# Altium schematic symbol library SCH - ETHERNET - TI DP83867.SchLib: 1 symbol
Pins are listed as number, name and electrical type; pins without a type are passive.

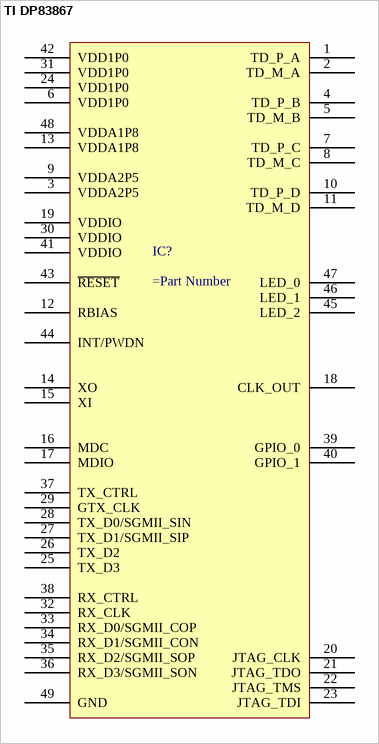
[diagram p0: symbol TI DP83867]

## TI DP83867
designator IC?
pins: 1 TD_P_A, 2 TD_M_A, 3 VDDA2P5, 4 TD_P_B, 5 TD_M_B, 6 VDD1P0, 7 TD_P_C, 8 TD_M_C, 9 VDDA2P5, 10 TD_P_D, 11 TD_M_D, 12 RBIAS, 13 VDDA1P8, 14 XO, 15 XI, 16 MDC, 17 MDIO, 18 CLK_OUT, 19 VDDIO, 20 JTAG_CLK, 21 JTAG_TDO, 22 JTAG_TMS, 23 JTAG_TDI, 24 VDD1P0, 25 TX_D3, 26 TX_D2, 27 TX_D1/SGMII_SIP, 28 TX_D0/SGMII_SIN, 29 GTX_CLK, 30 VDDIO, 31 VDD1P0, 32 RX_CLK, 33 RX_D0/SGMII_COP, 34 RX_D1/SGMII_CON, 35 RX_D2/SGMII_SOP, 36 RX_D3/SGMII_SON, 37 TX_CTRL, 38 RX_CTRL, 39 GPIO_0, 40 GPIO_1, 41 VDDIO, 42 VDD1P0, 43 ~{RESET}, 44 INT/PWDN, 45 LED_2, 46 LED_1, 47 LED_0, 48 VDDA1P8, 49 GND